# Altium footprint library diodes.pcblib: 2 footprints
Each footprint in its own frame and in the unit in brackets; x right, y up, seen from the top. Pads: shape width x height; smd on the part's side, far side on the other; paste and mask are expansions set on the pad; w line width, h text height; cw(c..) or ccw(c..) is an arc to the next point about the centre after c.
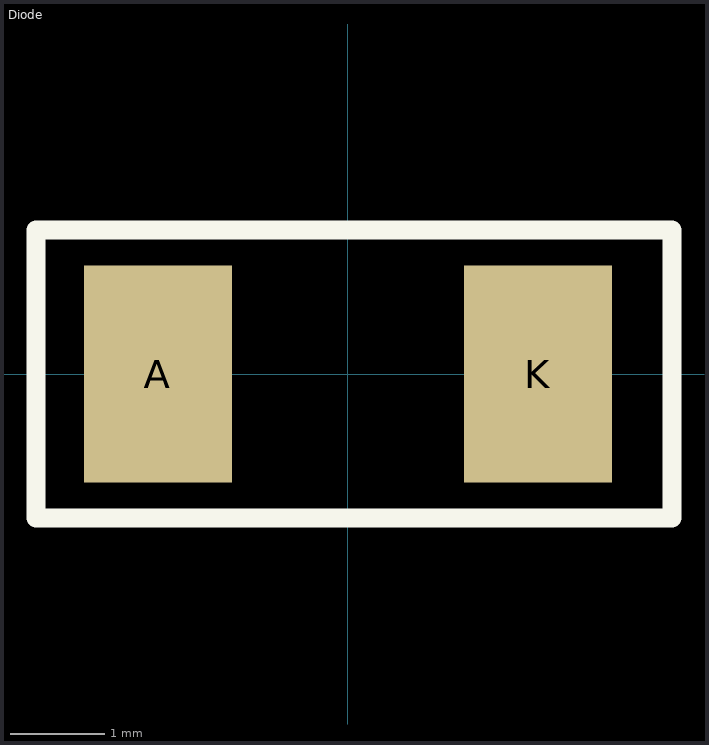
[diagram p0: the footprints below, top view; thin cyan lines are the x and y axes]

## Diode [mm]
pads (2):
  rect 1.57x2.3 smd: A(-2.01,0) K(2.01,0)
Top Overlay:
  lines w0.2: -3.302,-1.524 -3.302,-0.843 -3.302,1.524 3.429,1.524 3.429,1.478 3.429,-0.046 3.429,-1.524 -3.302,-1.524

## PCBComponent_1 [mm]